# EAGLE library part CON_SAMTEC_10 (library paparazzi)
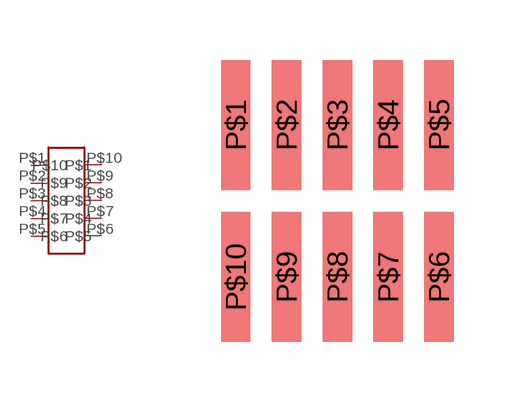
[diagram p15: symbol with the pads of CON_SANTEC_10; footprint CON_SANTEC_10]

Designator prefix -

## CON_SAMTEC_10  [CON_SANTEC_10]
P$1  P$1
P$2  P$2
P$3  P$3
P$4  P$4
P$5  P$5
P$6  P$6
P$7  P$7
P$8  P$8
P$9  P$9
P$10  P$10

## Footprint CON_SANTEC_10 (pad centres in mm)
smd 0.737 x 3.251: P$1 -2.54,1.905; P$2 -1.27,1.905; P$3 0,1.905; P$4 1.27,1.905; P$5 2.54,1.905; P$6 2.54,-1.905; P$7 1.27,-1.905; P$8 0,-1.905; P$9 -1.27,-1.905; P$10 -2.54,-1.905